# Altium schematic symbol library ISSI SRAM ASynchronous SRAM High Speed Low Power.SchLib: 413 symbols (part 4 of 21)
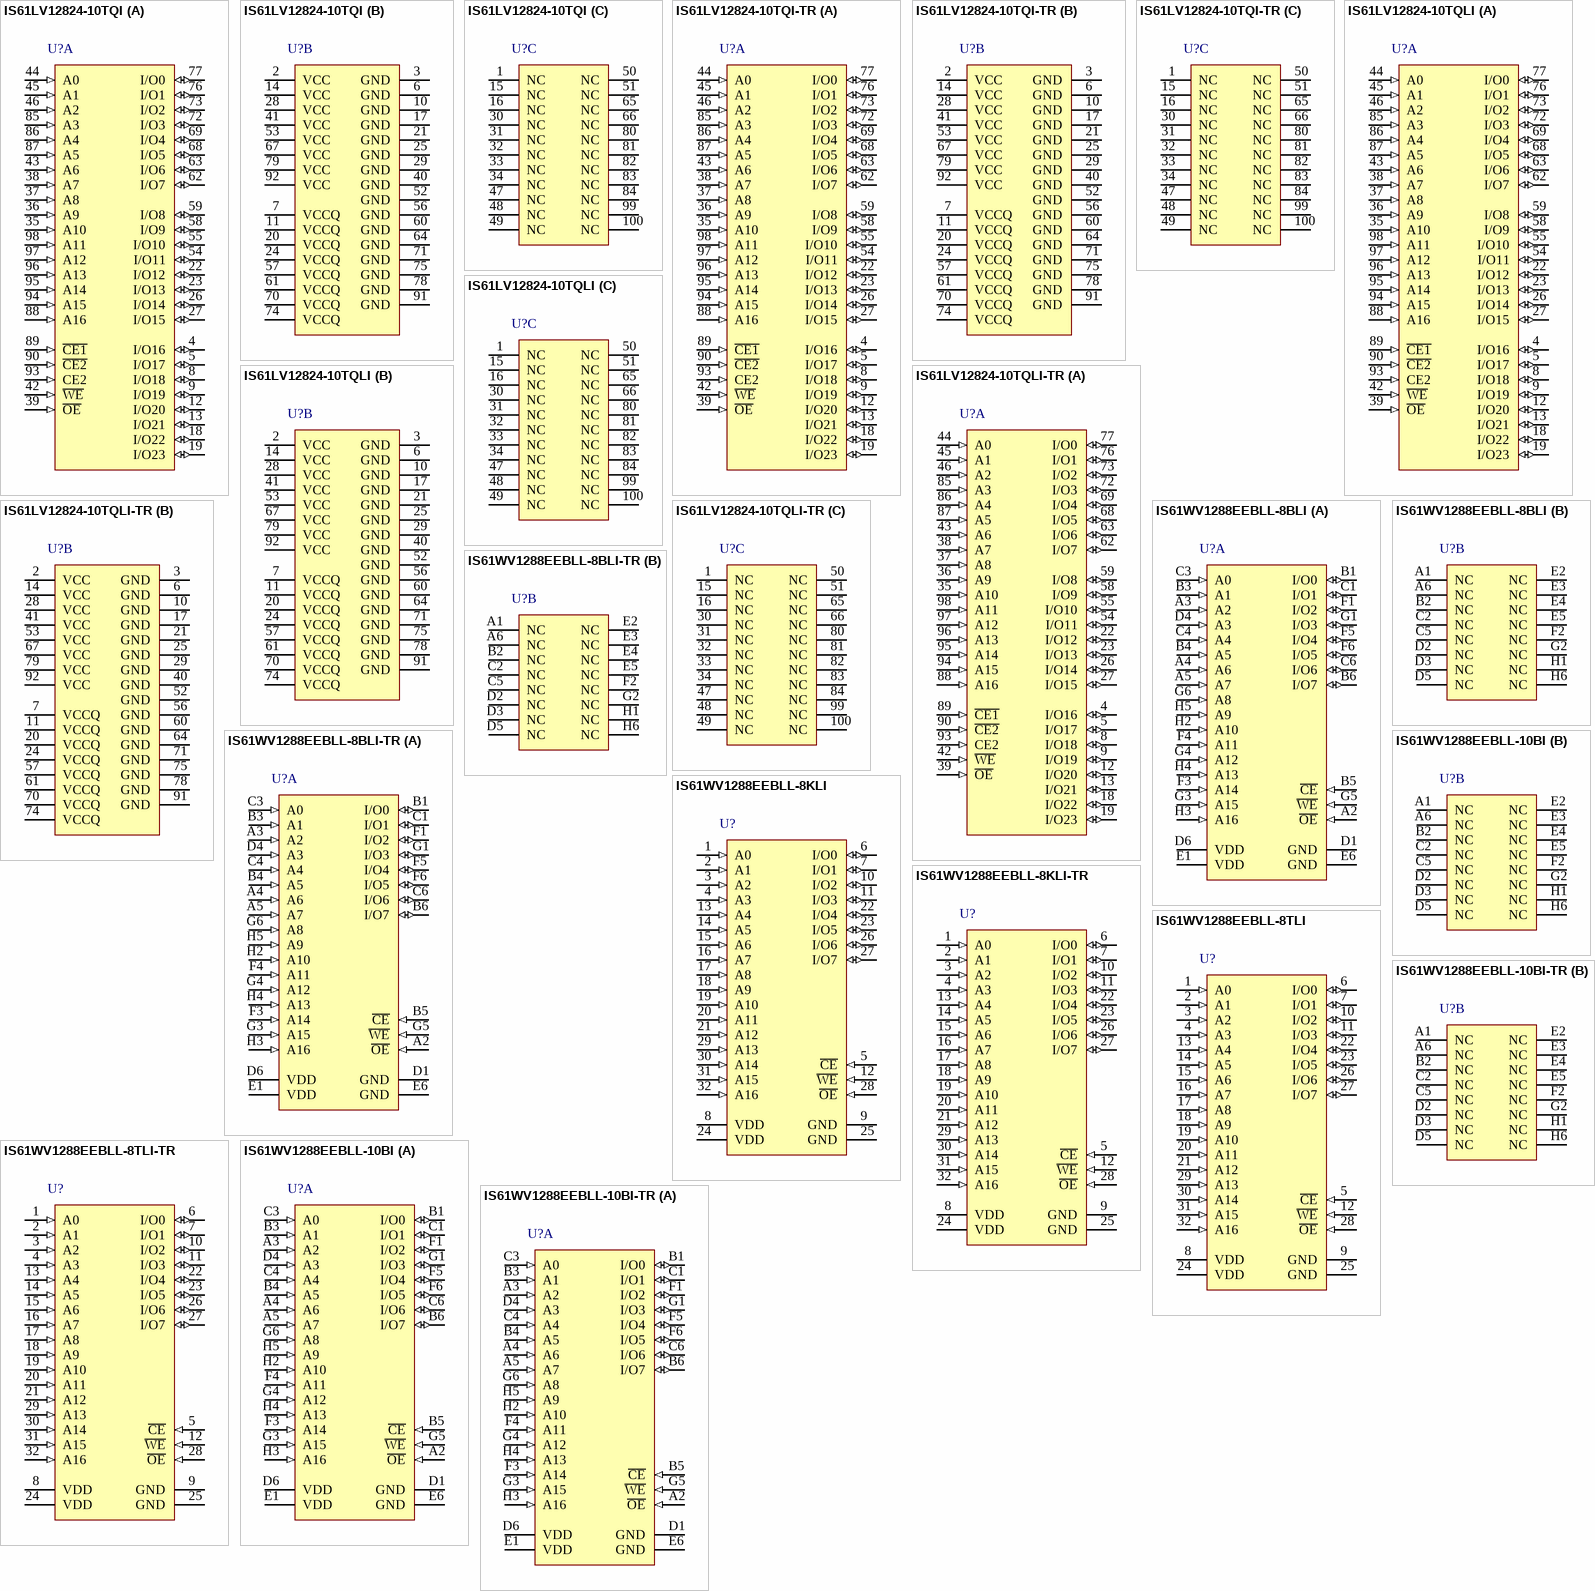
[diagram p31: symbols IS61LV12824-10TQI to IS61WV1288EEBLL-10BI-TR]

## IS61WV1288EEBLL-8BLI-TR
designator U?
1 M High Speed Asynchronous CMOS SRAM with ECC, 128 K x 8, -40 to 85 degC, 48-Pin BGA (TF-BGA-48), Pb-Free; Manufacturer: Integrated Silicon Solution Inc (ISSI); PartNumber: IS61WV1288EEBLL-8BLI-TR; Density: 1M; Organization: 128K x 8; Packing: Tape & Reel; Speed (ns): 8; DatasheetVersion: Rev. A; PackageVersion: Rev. C, 08/2008; PackageReference: TF-BGA-48; PackageDescription: 48-Pin 6 x 8 mm TF-BGA, Pitch 0.75 mm; RoHS: Pb-Free; Mounting Technology: Surface Mount; Code_JEDEC: MO-207; ComponentLink1Description: Manufacturer URL; ComponentLink1URL: http://www.issi.com/US/index.shtml; ComponentLink2Description: Datasheet; ComponentLink2URL: http://www.issi.com/WW/pdf/61-64WV1288EEBLL.pdf; ComponentLink3Description: Package Specification; ComponentLink3URL: http://www.issi.com/WW/pdf/61-64WV25616.pdf
footprint ISSI-TF-BGA-48-6000X8000DE (BGA, 48-Balls, Body 8x6mm, Pitch 0.75mm)
part A pins: A2 ~{OE} (in) "Output Enable Input", A3 A2 (in) "Address Input", A4 A6 (in) "Address Input", A5 A7 (in) "Address Input", B1 I/O0 (io) "Bidirectional Port", B3 A1 (in) "Address Input", B4 A5 (in) "Address Input", B5 ~{CE} (in) "Chip Enable Input", B6 I/O7 (io) "Bidirectional Port", C1 I/O1 (io) "Bidirectional Port", C3 A0 (in) "Address Input", C4 A4 (in) "Address Input", C6 I/O6 (io) "Bidirectional Port", D1 GND (power) "Ground", D4 A3 (in) "Address Input", D6 VDD (power) "Power", E1 VDD (power) "Power", E6 GND (power) "Ground", F1 I/O2 (io) "Bidirectional Port", F3 A14 (in) "Address Input", F4 A11 (in) "Address Input", F5 I/O4 (io) "Bidirectional Port", F6 I/O5 (io) "Bidirectional Port", G1 I/O3 (io) "Bidirectional Port", G3 A15 (in) "Address Input", G4 A12 (in) "Address Input", G5 ~{WE} (in) "Write Enable Input", G6 A8 (in) "Address Input", H2 A10 (in) "Address Input", H3 A16 (in) "Address Input", H4 A13 (in) "Address Input", H5 A9 (in) "Address Input"
part B pins: A1 NC "No Connection", A6 NC "No Connection", B2 NC "No Connection", C2 NC "No Connection", C5 NC "No Connection", D2 NC "No Connection", D3 NC "No Connection", D5 NC "No Connection", E2 NC "No Connection", E3 NC "No Connection", E4 NC "No Connection", E5 NC "No Connection", F2 NC "No Connection", G2 NC "No Connection", H1 NC "No Connection", H6 NC "No Connection"

## IS61WV1288EEBLL-8KLI
designator U?
1 M High Speed Asynchronous CMOS SRAM with ECC, 128 K x 8, -40 to 85 degC, 32-Pin SOJ (SOJ-32_B), Pb-Free; Manufacturer: Integrated Silicon Solution Inc (ISSI); PartNumber: IS61WV1288EEBLL-8KLI; Density: 1M; Organization: 128K x 8; Packing: Tray / Tube; Speed (ns): 8; DatasheetVersion: Rev. A; PackageVersion: Rev. E, 12/2007; PackageReference: SOJ-32; PackageDescription: 32-Pin 400 mil SOJ, Body 20.95 x 10.16 mm, Pitch 1.27 mm; RoHS: Pb-Free; Mounting Technology: Surface Mount; Code_JEDEC: MS-027; ComponentLink1Description: Manufacturer URL; ComponentLink1URL: http://www.issi.com/US/index.shtml; ComponentLink2Description: Datasheet; ComponentLink2URL: http://www.issi.com/WW/pdf/61-64WV1288EEBLL.pdf; ComponentLink3Description: Package Specification; ComponentLink3URL: http://www.issi.com/WW/pdf/61-64C1024AL.pdf
footprint ISSI-SOJ-32_B_N (SOJ, 32-Leads, Body 21.08x10.29mm, Pitch 1.27mm, IPC Medium Density)
pins: 1 A0 (in) "Address Input", 2 A1 (in) "Address Input", 3 A2 (in) "Address Input", 4 A3 (in) "Address Input", 5 ~{CE} (in) "Chip Enable Input", 6 I/O0 (io) "Bidirectional Port", 7 I/O1 (io) "Bidirectional Port", 8 VDD (power) "Power", 9 GND (power) "Ground", 10 I/O2 (io) "Bidirectional Port", 11 I/O3 (io) "Bidirectional Port", 12 ~{WE} (in) "Write Enable Input", 13 A4 (in) "Address Input", 14 A5 (in) "Address Input", 15 A6 (in) "Address Input", 16 A7 (in) "Address Input", 17 A8 (in) "Address Input", 18 A9 (in) "Address Input", 19 A10 (in) "Address Input", 20 A11 (in) "Address Input", 21 A12 (in) "Address Input", 22 I/O4 (io) "Bidirectional Port", 23 I/O5 (io) "Bidirectional Port", 24 VDD (power) "Power", 25 GND (power) "Ground", 26 I/O6 (io) "Bidirectional Port", 27 I/O7 (io) "Bidirectional Port", 28 ~{OE} (in) "Output Enable Input", 29 A13 (in) "Address Input", 30 A14 (in) "Address Input", 31 A15 (in) "Address Input", 32 A16 (in) "Address Input"

## IS61WV1288EEBLL-8KLI-TR
designator U?
1 M High Speed Asynchronous CMOS SRAM with ECC, 128 K x 8, -40 to 85 degC, 32-Pin SOJ (SOJ-32_B), Pb-Free; Manufacturer: Integrated Silicon Solution Inc (ISSI); PartNumber: IS61WV1288EEBLL-8KLI-TR; Density: 1M; Organization: 128K x 8; Packing: Tape & Reel; Speed (ns): 8; DatasheetVersion: Rev. A; PackageVersion: Rev. E, 12/2007; PackageReference: SOJ-32; PackageDescription: 32-Pin 400 mil SOJ, Body 20.95 x 10.16 mm, Pitch 1.27 mm; RoHS: Pb-Free; Mounting Technology: Surface Mount; Code_JEDEC: MS-027; ComponentLink1Description: Manufacturer URL; ComponentLink1URL: http://www.issi.com/US/index.shtml; ComponentLink2Description: Datasheet; ComponentLink2URL: http://www.issi.com/WW/pdf/61-64WV1288EEBLL.pdf; ComponentLink3Description: Package Specification; ComponentLink3URL: http://www.issi.com/WW/pdf/61-64C1024AL.pdf
footprint ISSI-SOJ-32_B_N (SOJ, 32-Leads, Body 21.08x10.29mm, Pitch 1.27mm, IPC Medium Density)
pins: 1 A0 (in) "Address Input", 2 A1 (in) "Address Input", 3 A2 (in) "Address Input", 4 A3 (in) "Address Input", 5 ~{CE} (in) "Chip Enable Input", 6 I/O0 (io) "Bidirectional Port", 7 I/O1 (io) "Bidirectional Port", 8 VDD (power) "Power", 9 GND (power) "Ground", 10 I/O2 (io) "Bidirectional Port", 11 I/O3 (io) "Bidirectional Port", 12 ~{WE} (in) "Write Enable Input", 13 A4 (in) "Address Input", 14 A5 (in) "Address Input", 15 A6 (in) "Address Input", 16 A7 (in) "Address Input", 17 A8 (in) "Address Input", 18 A9 (in) "Address Input", 19 A10 (in) "Address Input", 20 A11 (in) "Address Input", 21 A12 (in) "Address Input", 22 I/O4 (io) "Bidirectional Port", 23 I/O5 (io) "Bidirectional Port", 24 VDD (power) "Power", 25 GND (power) "Ground", 26 I/O6 (io) "Bidirectional Port", 27 I/O7 (io) "Bidirectional Port", 28 ~{OE} (in) "Output Enable Input", 29 A13 (in) "Address Input", 30 A14 (in) "Address Input", 31 A15 (in) "Address Input", 32 A16 (in) "Address Input"

## IS61WV1288EEBLL-8TLI
designator U?
1 M High Speed Asynchronous CMOS SRAM with ECC, 128 K x 8, -40 to 85 degC, 32-Pin SOP (TSOP-2-32), Pb-Free; Manufacturer: Integrated Silicon Solution Inc (ISSI); PartNumber: IS61WV1288EEBLL-8TLI; Density: 1M; Organization: 128K x 8; Packing: Tray / Tube; Speed (ns): 8; DatasheetVersion: Rev. A; PackageVersion: Rev. E, 06/2009; PackageReference: TSOP-2-32; PackageDescription: 32-Pin 400 mil TSOP-2, Body 20.95 x 10.16 mm, Pitch 1.27 mm; RoHS: Pb-Free; Mounting Technology: Surface Mount; ComponentLink1Description: Manufacturer URL; ComponentLink1URL: http://www.issi.com/US/index.shtml; ComponentLink2Description: Datasheet; ComponentLink2URL: http://www.issi.com/WW/pdf/61-64WV1288EEBLL.pdf; ComponentLink3Description: Package Specification; ComponentLink3URL: http://www.issi.com/WW/pdf/61-64WV1288EEBLL.pdf
footprint ISSI-TSOP-2-32_N (SOP, 32-Leads, Body 21.1x10.3mm, Pitch 1.27mm, IPC Medium Density)
pins: 1 A0 (in) "Address Input", 2 A1 (in) "Address Input", 3 A2 (in) "Address Input", 4 A3 (in) "Address Input", 5 ~{CE} (in) "Chip Enable Input", 6 I/O0 (io) "Bidirectional Port", 7 I/O1 (io) "Bidirectional Port", 8 VDD (power) "Power", 9 GND (power) "Ground", 10 I/O2 (io) "Bidirectional Port", 11 I/O3 (io) "Bidirectional Port", 12 ~{WE} (in) "Write Enable Input", 13 A4 (in) "Address Input", 14 A5 (in) "Address Input", 15 A6 (in) "Address Input", 16 A7 (in) "Address Input", 17 A8 (in) "Address Input", 18 A9 (in) "Address Input", 19 A10 (in) "Address Input", 20 A11 (in) "Address Input", 21 A12 (in) "Address Input", 22 I/O4 (io) "Bidirectional Port", 23 I/O5 (io) "Bidirectional Port", 24 VDD (power) "Power", 25 GND (power) "Ground", 26 I/O6 (io) "Bidirectional Port", 27 I/O7 (io) "Bidirectional Port", 28 ~{OE} (in) "Output Enable Input", 29 A13 (in) "Address Input", 30 A14 (in) "Address Input", 31 A15 (in) "Address Input", 32 A16 (in) "Address Input"

## IS61WV1288EEBLL-8TLI-TR
designator U?
1 M High Speed Asynchronous CMOS SRAM with ECC, 128 K x 8, -40 to 85 degC, 32-Pin SOP (TSOP-2-32), Pb-Free; Manufacturer: Integrated Silicon Solution Inc (ISSI); PartNumber: IS61WV1288EEBLL-8TLI-TR; Density: 1M; Organization: 128K x 8; Packing: Tape & Reel; Speed (ns): 8; DatasheetVersion: Rev. A; PackageVersion: Rev. E, 06/2009; PackageReference: TSOP-2-32; PackageDescription: 32-Pin 400 mil TSOP-2, Body 20.95 x 10.16 mm, Pitch 1.27 mm; RoHS: Pb-Free; Mounting Technology: Surface Mount; ComponentLink1Description: Manufacturer URL; ComponentLink1URL: http://www.issi.com/US/index.shtml; ComponentLink2Description: Datasheet; ComponentLink2URL: http://www.issi.com/WW/pdf/61-64WV1288EEBLL.pdf; ComponentLink3Description: Package Specification; ComponentLink3URL: http://www.issi.com/WW/pdf/61-64WV1288EEBLL.pdf
footprint ISSI-TSOP-2-32_N (SOP, 32-Leads, Body 21.1x10.3mm, Pitch 1.27mm, IPC Medium Density)
pins: 1 A0 (in) "Address Input", 2 A1 (in) "Address Input", 3 A2 (in) "Address Input", 4 A3 (in) "Address Input", 5 ~{CE} (in) "Chip Enable Input", 6 I/O0 (io) "Bidirectional Port", 7 I/O1 (io) "Bidirectional Port", 8 VDD (power) "Power", 9 GND (power) "Ground", 10 I/O2 (io) "Bidirectional Port", 11 I/O3 (io) "Bidirectional Port", 12 ~{WE} (in) "Write Enable Input", 13 A4 (in) "Address Input", 14 A5 (in) "Address Input", 15 A6 (in) "Address Input", 16 A7 (in) "Address Input", 17 A8 (in) "Address Input", 18 A9 (in) "Address Input", 19 A10 (in) "Address Input", 20 A11 (in) "Address Input", 21 A12 (in) "Address Input", 22 I/O4 (io) "Bidirectional Port", 23 I/O5 (io) "Bidirectional Port", 24 VDD (power) "Power", 25 GND (power) "Ground", 26 I/O6 (io) "Bidirectional Port", 27 I/O7 (io) "Bidirectional Port", 28 ~{OE} (in) "Output Enable Input", 29 A13 (in) "Address Input", 30 A14 (in) "Address Input", 31 A15 (in) "Address Input", 32 A16 (in) "Address Input"

## IS61WV1288EEBLL-10BI
designator U?
1 M High Speed Asynchronous CMOS SRAM with ECC, 128 K x 8, -40 to 85 degC, 48-Pin BGA (TF-BGA-48); Manufacturer: Integrated Silicon Solution Inc (ISSI); PartNumber: IS61WV1288EEBLL-10BI; Density: 1M; Organization: 128K x 8; Packing: Tray / Tube; Speed (ns): 10; DatasheetVersion: Rev. A; PackageVersion: Rev. C, 08/2008; PackageReference: TF-BGA-48; PackageDescription: 48-Pin 6 x 8 mm TF-BGA, Pitch 0.75 mm; Mounting Technology: Surface Mount; Code_JEDEC: MO-207; ComponentLink1Description: Manufacturer URL; ComponentLink1URL: http://www.issi.com/US/index.shtml; ComponentLink2Description: Datasheet; ComponentLink2URL: http://www.issi.com/WW/pdf/61-64WV1288EEBLL.pdf; ComponentLink3Description: Package Specification; ComponentLink3URL: http://www.issi.com/WW/pdf/61-64WV25616.pdf
footprint ISSI-TF-BGA-48-6000X8000DE (BGA, 48-Balls, Body 8x6mm, Pitch 0.75mm)
part A pins: A2 ~{OE} (in) "Output Enable Input", A3 A2 (in) "Address Input", A4 A6 (in) "Address Input", A5 A7 (in) "Address Input", B1 I/O0 (io) "Bidirectional Port", B3 A1 (in) "Address Input", B4 A5 (in) "Address Input", B5 ~{CE} (in) "Chip Enable Input", B6 I/O7 (io) "Bidirectional Port", C1 I/O1 (io) "Bidirectional Port", C3 A0 (in) "Address Input", C4 A4 (in) "Address Input", C6 I/O6 (io) "Bidirectional Port", D1 GND (power) "Ground", D4 A3 (in) "Address Input", D6 VDD (power) "Power", E1 VDD (power) "Power", E6 GND (power) "Ground", F1 I/O2 (io) "Bidirectional Port", F3 A14 (in) "Address Input", F4 A11 (in) "Address Input", F5 I/O4 (io) "Bidirectional Port", F6 I/O5 (io) "Bidirectional Port", G1 I/O3 (io) "Bidirectional Port", G3 A15 (in) "Address Input", G4 A12 (in) "Address Input", G5 ~{WE} (in) "Write Enable Input", G6 A8 (in) "Address Input", H2 A10 (in) "Address Input", H3 A16 (in) "Address Input", H4 A13 (in) "Address Input", H5 A9 (in) "Address Input"
part B pins: A1 NC "No Connection", A6 NC "No Connection", B2 NC "No Connection", C2 NC "No Connection", C5 NC "No Connection", D2 NC "No Connection", D3 NC "No Connection", D5 NC "No Connection", E2 NC "No Connection", E3 NC "No Connection", E4 NC "No Connection", E5 NC "No Connection", F2 NC "No Connection", G2 NC "No Connection", H1 NC "No Connection", H6 NC "No Connection"

## IS61WV1288EEBLL-10BI-TR
designator U?
1 M High Speed Asynchronous CMOS SRAM with ECC, 128 K x 8, -40 to 85 degC, 48-Pin BGA (TF-BGA-48); Manufacturer: Integrated Silicon Solution Inc (ISSI); PartNumber: IS61WV1288EEBLL-10BI-TR; Density: 1M; Organization: 128K x 8; Packing: Tape & Reel; Speed (ns): 10; DatasheetVersion: Rev. A; PackageVersion: Rev. C, 08/2008; PackageReference: TF-BGA-48; PackageDescription: 48-Pin 6 x 8 mm TF-BGA, Pitch 0.75 mm; Mounting Technology: Surface Mount; Code_JEDEC: MO-207; ComponentLink1Description: Manufacturer URL; ComponentLink1URL: http://www.issi.com/US/index.shtml; ComponentLink2Description: Datasheet; ComponentLink2URL: http://www.issi.com/WW/pdf/61-64WV1288EEBLL.pdf; ComponentLink3Description: Package Specification; ComponentLink3URL: http://www.issi.com/WW/pdf/61-64WV25616.pdf
footprint ISSI-TF-BGA-48-6000X8000DE (BGA, 48-Balls, Body 8x6mm, Pitch 0.75mm)
part A pins: A2 ~{OE} (in) "Output Enable Input", A3 A2 (in) "Address Input", A4 A6 (in) "Address Input", A5 A7 (in) "Address Input", B1 I/O0 (io) "Bidirectional Port", B3 A1 (in) "Address Input", B4 A5 (in) "Address Input", B5 ~{CE} (in) "Chip Enable Input", B6 I/O7 (io) "Bidirectional Port", C1 I/O1 (io) "Bidirectional Port", C3 A0 (in) "Address Input", C4 A4 (in) "Address Input", C6 I/O6 (io) "Bidirectional Port", D1 GND (power) "Ground", D4 A3 (in) "Address Input", D6 VDD (power) "Power", E1 VDD (power) "Power", E6 GND (power) "Ground", F1 I/O2 (io) "Bidirectional Port", F3 A14 (in) "Address Input", F4 A11 (in) "Address Input", F5 I/O4 (io) "Bidirectional Port", F6 I/O5 (io) "Bidirectional Port", G1 I/O3 (io) "Bidirectional Port", G3 A15 (in) "Address Input", G4 A12 (in) "Address Input", G5 ~{WE} (in) "Write Enable Input", G6 A8 (in) "Address Input", H2 A10 (in) "Address Input", H3 A16 (in) "Address Input", H4 A13 (in) "Address Input", H5 A9 (in) "Address Input"
part B pins: A1 NC "No Connection", A6 NC "No Connection", B2 NC "No Connection", C2 NC "No Connection", C5 NC "No Connection", D2 NC "No Connection", D3 NC "No Connection", D5 NC "No Connection", E2 NC "No Connection", E3 NC "No Connection", E4 NC "No Connection", E5 NC "No Connection", F2 NC "No Connection", G2 NC "No Connection", H1 NC "No Connection", H6 NC "No Connection"

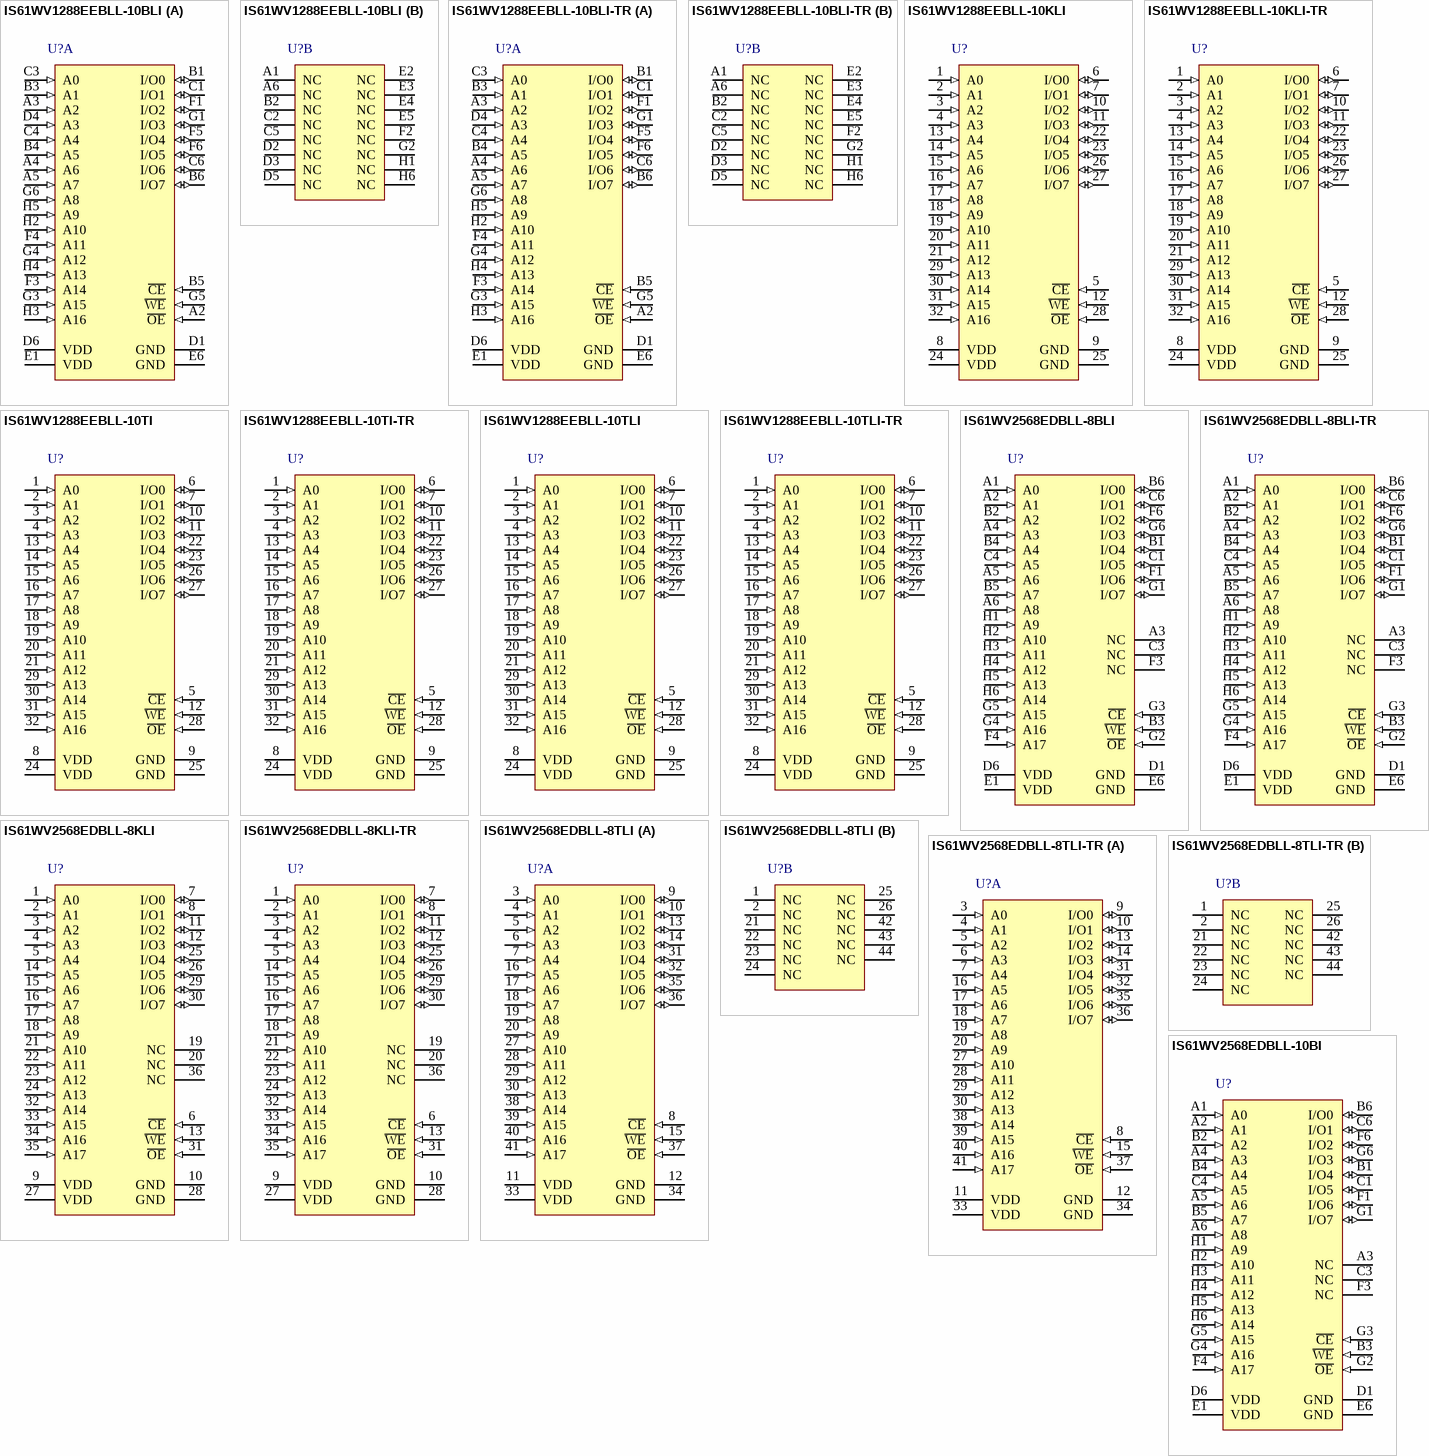
[diagram p5: symbols IS61WV1288EEBLL-10BLI to IS61WV2568EDBLL-10BI]

## IS61WV1288EEBLL-10BLI
designator U?
1 M High Speed Asynchronous CMOS SRAM with ECC, 128 K x 8, -40 to 85 degC, 48-Pin BGA (TF-BGA-48), Pb-Free; Manufacturer: Integrated Silicon Solution Inc (ISSI); PartNumber: IS61WV1288EEBLL-10BLI; Density: 1M; Organization: 128K x 8; Packing: Tray / Tube; Speed (ns): 10; DatasheetVersion: Rev. A; PackageVersion: Rev. C, 08/2008; PackageReference: TF-BGA-48; PackageDescription: 48-Pin 6 x 8 mm TF-BGA, Pitch 0.75 mm; RoHS: Pb-Free; Mounting Technology: Surface Mount; Code_JEDEC: MO-207; ComponentLink1Description: Manufacturer URL; ComponentLink1URL: http://www.issi.com/US/index.shtml; ComponentLink2Description: Datasheet; ComponentLink2URL: http://www.issi.com/WW/pdf/61-64WV1288EEBLL.pdf; ComponentLink3Description: Package Specification; ComponentLink3URL: http://www.issi.com/WW/pdf/61-64WV25616.pdf
footprint ISSI-TF-BGA-48-6000X8000DE (BGA, 48-Balls, Body 8x6mm, Pitch 0.75mm)
part A pins: A2 ~{OE} (in) "Output Enable Input", A3 A2 (in) "Address Input", A4 A6 (in) "Address Input", A5 A7 (in) "Address Input", B1 I/O0 (io) "Bidirectional Port", B3 A1 (in) "Address Input", B4 A5 (in) "Address Input", B5 ~{CE} (in) "Chip Enable Input", B6 I/O7 (io) "Bidirectional Port", C1 I/O1 (io) "Bidirectional Port", C3 A0 (in) "Address Input", C4 A4 (in) "Address Input", C6 I/O6 (io) "Bidirectional Port", D1 GND (power) "Ground", D4 A3 (in) "Address Input", D6 VDD (power) "Power", E1 VDD (power) "Power", E6 GND (power) "Ground", F1 I/O2 (io) "Bidirectional Port", F3 A14 (in) "Address Input", F4 A11 (in) "Address Input", F5 I/O4 (io) "Bidirectional Port", F6 I/O5 (io) "Bidirectional Port", G1 I/O3 (io) "Bidirectional Port", G3 A15 (in) "Address Input", G4 A12 (in) "Address Input", G5 ~{WE} (in) "Write Enable Input", G6 A8 (in) "Address Input", H2 A10 (in) "Address Input", H3 A16 (in) "Address Input", H4 A13 (in) "Address Input", H5 A9 (in) "Address Input"
part B pins: A1 NC "No Connection", A6 NC "No Connection", B2 NC "No Connection", C2 NC "No Connection", C5 NC "No Connection", D2 NC "No Connection", D3 NC "No Connection", D5 NC "No Connection", E2 NC "No Connection", E3 NC "No Connection", E4 NC "No Connection", E5 NC "No Connection", F2 NC "No Connection", G2 NC "No Connection", H1 NC "No Connection", H6 NC "No Connection"

## IS61WV1288EEBLL-10BLI-TR
designator U?
1 M High Speed Asynchronous CMOS SRAM with ECC, 128 K x 8, -40 to 85 degC, 48-Pin BGA (TF-BGA-48), Pb-Free; Manufacturer: Integrated Silicon Solution Inc (ISSI); PartNumber: IS61WV1288EEBLL-10BLI-TR; Density: 1M; Organization: 128K x 8; Packing: Tape & Reel; Speed (ns): 10; DatasheetVersion: Rev. A; PackageVersion: Rev. C, 08/2008; PackageReference: TF-BGA-48; PackageDescription: 48-Pin 6 x 8 mm TF-BGA, Pitch 0.75 mm; RoHS: Pb-Free; Mounting Technology: Surface Mount; Code_JEDEC: MO-207; ComponentLink1Description: Manufacturer URL; ComponentLink1URL: http://www.issi.com/US/index.shtml; ComponentLink2Description: Datasheet; ComponentLink2URL: http://www.issi.com/WW/pdf/61-64WV1288EEBLL.pdf; ComponentLink3Description: Package Specification; ComponentLink3URL: http://www.issi.com/WW/pdf/61-64WV25616.pdf
footprint ISSI-TF-BGA-48-6000X8000DE (BGA, 48-Balls, Body 8x6mm, Pitch 0.75mm)
part A pins: A2 ~{OE} (in) "Output Enable Input", A3 A2 (in) "Address Input", A4 A6 (in) "Address Input", A5 A7 (in) "Address Input", B1 I/O0 (io) "Bidirectional Port", B3 A1 (in) "Address Input", B4 A5 (in) "Address Input", B5 ~{CE} (in) "Chip Enable Input", B6 I/O7 (io) "Bidirectional Port", C1 I/O1 (io) "Bidirectional Port", C3 A0 (in) "Address Input", C4 A4 (in) "Address Input", C6 I/O6 (io) "Bidirectional Port", D1 GND (power) "Ground", D4 A3 (in) "Address Input", D6 VDD (power) "Power", E1 VDD (power) "Power", E6 GND (power) "Ground", F1 I/O2 (io) "Bidirectional Port", F3 A14 (in) "Address Input", F4 A11 (in) "Address Input", F5 I/O4 (io) "Bidirectional Port", F6 I/O5 (io) "Bidirectional Port", G1 I/O3 (io) "Bidirectional Port", G3 A15 (in) "Address Input", G4 A12 (in) "Address Input", G5 ~{WE} (in) "Write Enable Input", G6 A8 (in) "Address Input", H2 A10 (in) "Address Input", H3 A16 (in) "Address Input", H4 A13 (in) "Address Input", H5 A9 (in) "Address Input"
part B pins: A1 NC "No Connection", A6 NC "No Connection", B2 NC "No Connection", C2 NC "No Connection", C5 NC "No Connection", D2 NC "No Connection", D3 NC "No Connection", D5 NC "No Connection", E2 NC "No Connection", E3 NC "No Connection", E4 NC "No Connection", E5 NC "No Connection", F2 NC "No Connection", G2 NC "No Connection", H1 NC "No Connection", H6 NC "No Connection"

## IS61WV1288EEBLL-10KLI
designator U?
1 M High Speed Asynchronous CMOS SRAM with ECC, 128 K x 8, -40 to 85 degC, 32-Pin SOJ (SOJ-32_B), Pb-Free; Manufacturer: Integrated Silicon Solution Inc (ISSI); PartNumber: IS61WV1288EEBLL-10KLI; Density: 1M; Organization: 128K x 8; Packing: Tray / Tube; Speed (ns): 10; DatasheetVersion: Rev. A; PackageVersion: Rev. E, 12/2007; PackageReference: SOJ-32; PackageDescription: 32-Pin 400 mil SOJ, Body 20.95 x 10.16 mm, Pitch 1.27 mm; RoHS: Pb-Free; Mounting Technology: Surface Mount; Code_JEDEC: MS-027; ComponentLink1Description: Manufacturer URL; ComponentLink1URL: http://www.issi.com/US/index.shtml; ComponentLink2Description: Datasheet; ComponentLink2URL: http://www.issi.com/WW/pdf/61-64WV1288EEBLL.pdf; ComponentLink3Description: Package Specification; ComponentLink3URL: http://www.issi.com/WW/pdf/61-64C1024AL.pdf
footprint ISSI-SOJ-32_B_N (SOJ, 32-Leads, Body 21.08x10.29mm, Pitch 1.27mm, IPC Medium Density)
pins: 1 A0 (in) "Address Input", 2 A1 (in) "Address Input", 3 A2 (in) "Address Input", 4 A3 (in) "Address Input", 5 ~{CE} (in) "Chip Enable Input", 6 I/O0 (io) "Bidirectional Port", 7 I/O1 (io) "Bidirectional Port", 8 VDD (power) "Power", 9 GND (power) "Ground", 10 I/O2 (io) "Bidirectional Port", 11 I/O3 (io) "Bidirectional Port", 12 ~{WE} (in) "Write Enable Input", 13 A4 (in) "Address Input", 14 A5 (in) "Address Input", 15 A6 (in) "Address Input", 16 A7 (in) "Address Input", 17 A8 (in) "Address Input", 18 A9 (in) "Address Input", 19 A10 (in) "Address Input", 20 A11 (in) "Address Input", 21 A12 (in) "Address Input", 22 I/O4 (io) "Bidirectional Port", 23 I/O5 (io) "Bidirectional Port", 24 VDD (power) "Power", 25 GND (power) "Ground", 26 I/O6 (io) "Bidirectional Port", 27 I/O7 (io) "Bidirectional Port", 28 ~{OE} (in) "Output Enable Input", 29 A13 (in) "Address Input", 30 A14 (in) "Address Input", 31 A15 (in) "Address Input", 32 A16 (in) "Address Input"

## IS61WV1288EEBLL-10KLI-TR
designator U?
1 M High Speed Asynchronous CMOS SRAM with ECC, 128 K x 8, -40 to 85 degC, 32-Pin SOJ (SOJ-32_B), Pb-Free; Manufacturer: Integrated Silicon Solution Inc (ISSI); PartNumber: IS61WV1288EEBLL-10KLI-TR; Density: 1M; Organization: 128K x 8; Packing: Tape & Reel; Speed (ns): 10; DatasheetVersion: Rev. A; PackageVersion: Rev. E, 12/2007; PackageReference: SOJ-32; PackageDescription: 32-Pin 400 mil SOJ, Body 20.95 x 10.16 mm, Pitch 1.27 mm; RoHS: Pb-Free; Mounting Technology: Surface Mount; Code_JEDEC: MS-027; ComponentLink1Description: Manufacturer URL; ComponentLink1URL: http://www.issi.com/US/index.shtml; ComponentLink2Description: Datasheet; ComponentLink2URL: http://www.issi.com/WW/pdf/61-64WV1288EEBLL.pdf; ComponentLink3Description: Package Specification; ComponentLink3URL: http://www.issi.com/WW/pdf/61-64C1024AL.pdf
footprint ISSI-SOJ-32_B_N (SOJ, 32-Leads, Body 21.08x10.29mm, Pitch 1.27mm, IPC Medium Density)
pins: 1 A0 (in) "Address Input", 2 A1 (in) "Address Input", 3 A2 (in) "Address Input", 4 A3 (in) "Address Input", 5 ~{CE} (in) "Chip Enable Input", 6 I/O0 (io) "Bidirectional Port", 7 I/O1 (io) "Bidirectional Port", 8 VDD (power) "Power", 9 GND (power) "Ground", 10 I/O2 (io) "Bidirectional Port", 11 I/O3 (io) "Bidirectional Port", 12 ~{WE} (in) "Write Enable Input", 13 A4 (in) "Address Input", 14 A5 (in) "Address Input", 15 A6 (in) "Address Input", 16 A7 (in) "Address Input", 17 A8 (in) "Address Input", 18 A9 (in) "Address Input", 19 A10 (in) "Address Input", 20 A11 (in) "Address Input", 21 A12 (in) "Address Input", 22 I/O4 (io) "Bidirectional Port", 23 I/O5 (io) "Bidirectional Port", 24 VDD (power) "Power", 25 GND (power) "Ground", 26 I/O6 (io) "Bidirectional Port", 27 I/O7 (io) "Bidirectional Port", 28 ~{OE} (in) "Output Enable Input", 29 A13 (in) "Address Input", 30 A14 (in) "Address Input", 31 A15 (in) "Address Input", 32 A16 (in) "Address Input"

## IS61WV1288EEBLL-10TI
designator U?
1 M High Speed Asynchronous CMOS SRAM with ECC, 128 K x 8, -40 to 85 degC, 32-Pin SOP (TSOP-2-32); Manufacturer: Integrated Silicon Solution Inc (ISSI); PartNumber: IS61WV1288EEBLL-10TI; Density: 1M; Organization: 128K x 8; Packing: Tray / Tube; Speed (ns): 10; DatasheetVersion: Rev. A; PackageVersion: Rev. E, 06/2009; PackageReference: TSOP-2-32; PackageDescription: 32-Pin 400 mil TSOP-2, Body 20.95 x 10.16 mm, Pitch 1.27 mm; Mounting Technology: Surface Mount; ComponentLink1Description: Manufacturer URL; ComponentLink1URL: http://www.issi.com/US/index.shtml; ComponentLink2Description: Datasheet; ComponentLink2URL: http://www.issi.com/WW/pdf/61-64WV1288EEBLL.pdf; ComponentLink3Description: Package Specification; ComponentLink3URL: http://www.issi.com/WW/pdf/61-64WV1288EEBLL.pdf
footprint ISSI-TSOP-2-32_N (SOP, 32-Leads, Body 21.1x10.3mm, Pitch 1.27mm, IPC Medium Density)
pins: 1 A0 (in) "Address Input", 2 A1 (in) "Address Input", 3 A2 (in) "Address Input", 4 A3 (in) "Address Input", 5 ~{CE} (in) "Chip Enable Input", 6 I/O0 (io) "Bidirectional Port", 7 I/O1 (io) "Bidirectional Port", 8 VDD (power) "Power", 9 GND (power) "Ground", 10 I/O2 (io) "Bidirectional Port", 11 I/O3 (io) "Bidirectional Port", 12 ~{WE} (in) "Write Enable Input", 13 A4 (in) "Address Input", 14 A5 (in) "Address Input", 15 A6 (in) "Address Input", 16 A7 (in) "Address Input", 17 A8 (in) "Address Input", 18 A9 (in) "Address Input", 19 A10 (in) "Address Input", 20 A11 (in) "Address Input", 21 A12 (in) "Address Input", 22 I/O4 (io) "Bidirectional Port", 23 I/O5 (io) "Bidirectional Port", 24 VDD (power) "Power", 25 GND (power) "Ground", 26 I/O6 (io) "Bidirectional Port", 27 I/O7 (io) "Bidirectional Port", 28 ~{OE} (in) "Output Enable Input", 29 A13 (in) "Address Input", 30 A14 (in) "Address Input", 31 A15 (in) "Address Input", 32 A16 (in) "Address Input"

## IS61WV1288EEBLL-10TI-TR
designator U?
1 M High Speed Asynchronous CMOS SRAM with ECC, 128 K x 8, -40 to 85 degC, 32-Pin SOP (TSOP-2-32); Manufacturer: Integrated Silicon Solution Inc (ISSI); PartNumber: IS61WV1288EEBLL-10TI-TR; Density: 1M; Organization: 128K x 8; Packing: Tape & Reel; Speed (ns): 10; DatasheetVersion: Rev. A; PackageVersion: Rev. E, 06/2009; PackageReference: TSOP-2-32; PackageDescription: 32-Pin 400 mil TSOP-2, Body 20.95 x 10.16 mm, Pitch 1.27 mm; Mounting Technology: Surface Mount; ComponentLink1Description: Manufacturer URL; ComponentLink1URL: http://www.issi.com/US/index.shtml; ComponentLink2Description: Datasheet; ComponentLink2URL: http://www.issi.com/WW/pdf/61-64WV1288EEBLL.pdf; ComponentLink3Description: Package Specification; ComponentLink3URL: http://www.issi.com/WW/pdf/61-64WV1288EEBLL.pdf
footprint ISSI-TSOP-2-32_N (SOP, 32-Leads, Body 21.1x10.3mm, Pitch 1.27mm, IPC Medium Density)
pins: 1 A0 (in) "Address Input", 2 A1 (in) "Address Input", 3 A2 (in) "Address Input", 4 A3 (in) "Address Input", 5 ~{CE} (in) "Chip Enable Input", 6 I/O0 (io) "Bidirectional Port", 7 I/O1 (io) "Bidirectional Port", 8 VDD (power) "Power", 9 GND (power) "Ground", 10 I/O2 (io) "Bidirectional Port", 11 I/O3 (io) "Bidirectional Port", 12 ~{WE} (in) "Write Enable Input", 13 A4 (in) "Address Input", 14 A5 (in) "Address Input", 15 A6 (in) "Address Input", 16 A7 (in) "Address Input", 17 A8 (in) "Address Input", 18 A9 (in) "Address Input", 19 A10 (in) "Address Input", 20 A11 (in) "Address Input", 21 A12 (in) "Address Input", 22 I/O4 (io) "Bidirectional Port", 23 I/O5 (io) "Bidirectional Port", 24 VDD (power) "Power", 25 GND (power) "Ground", 26 I/O6 (io) "Bidirectional Port", 27 I/O7 (io) "Bidirectional Port", 28 ~{OE} (in) "Output Enable Input", 29 A13 (in) "Address Input", 30 A14 (in) "Address Input", 31 A15 (in) "Address Input", 32 A16 (in) "Address Input"

## IS61WV1288EEBLL-10TLI
designator U?
1 M High Speed Asynchronous CMOS SRAM with ECC, 128 K x 8, -40 to 85 degC, 32-Pin SOP (TSOP-2-32), Pb-Free; Manufacturer: Integrated Silicon Solution Inc (ISSI); PartNumber: IS61WV1288EEBLL-10TLI; Density: 1M; Organization: 128K x 8; Packing: Tray / Tube; Speed (ns): 10; DatasheetVersion: Rev. A; PackageVersion: Rev. E, 06/2009; PackageReference: TSOP-2-32; PackageDescription: 32-Pin 400 mil TSOP-2, Body 20.95 x 10.16 mm, Pitch 1.27 mm; Supplier 1: Mouser; Supplier Part Number 1: 870-61WV1288ELL10TLI; RoHS: Pb-Free; Mounting Technology: Surface Mount; ComponentLink1Description: Manufacturer URL; ComponentLink1URL: http://www.issi.com/US/index.shtml; ComponentLink2Description: Datasheet; ComponentLink2URL: http://www.issi.com/WW/pdf/61-64WV1288EEBLL.pdf; ComponentLink3Description: Package Specification; ComponentLink3URL: http://www.issi.com/WW/pdf/61-64WV1288EEBLL.pdf
footprint ISSI-TSOP-2-32_N (SOP, 32-Leads, Body 21.1x10.3mm, Pitch 1.27mm, IPC Medium Density)
pins: 1 A0 (in) "Address Input", 2 A1 (in) "Address Input", 3 A2 (in) "Address Input", 4 A3 (in) "Address Input", 5 ~{CE} (in) "Chip Enable Input", 6 I/O0 (io) "Bidirectional Port", 7 I/O1 (io) "Bidirectional Port", 8 VDD (power) "Power", 9 GND (power) "Ground", 10 I/O2 (io) "Bidirectional Port", 11 I/O3 (io) "Bidirectional Port", 12 ~{WE} (in) "Write Enable Input", 13 A4 (in) "Address Input", 14 A5 (in) "Address Input", 15 A6 (in) "Address Input", 16 A7 (in) "Address Input", 17 A8 (in) "Address Input", 18 A9 (in) "Address Input", 19 A10 (in) "Address Input", 20 A11 (in) "Address Input", 21 A12 (in) "Address Input", 22 I/O4 (io) "Bidirectional Port", 23 I/O5 (io) "Bidirectional Port", 24 VDD (power) "Power", 25 GND (power) "Ground", 26 I/O6 (io) "Bidirectional Port", 27 I/O7 (io) "Bidirectional Port", 28 ~{OE} (in) "Output Enable Input", 29 A13 (in) "Address Input", 30 A14 (in) "Address Input", 31 A15 (in) "Address Input", 32 A16 (in) "Address Input"

## IS61WV1288EEBLL-10TLI-TR
designator U?
1 M High Speed Asynchronous CMOS SRAM with ECC, 128 K x 8, -40 to 85 degC, 32-Pin SOP (TSOP-2-32), Pb-Free; Manufacturer: Integrated Silicon Solution Inc (ISSI); PartNumber: IS61WV1288EEBLL-10TLI-TR; Density: 1M; Organization: 128K x 8; Packing: Tape & Reel; Speed (ns): 10; DatasheetVersion: Rev. A; PackageVersion: Rev. E, 06/2009; PackageReference: TSOP-2-32; PackageDescription: 32-Pin 400 mil TSOP-2, Body 20.95 x 10.16 mm, Pitch 1.27 mm; Supplier 1: Mouser; Supplier Part Number 1: 870-61WV1288EE10TLIR; RoHS: Pb-Free; Mounting Technology: Surface Mount; ComponentLink1Description: Manufacturer URL; ComponentLink1URL: http://www.issi.com/US/index.shtml; ComponentLink2Description: Datasheet; ComponentLink2URL: http://www.issi.com/WW/pdf/61-64WV1288EEBLL.pdf; ComponentLink3Description: Package Specification; ComponentLink3URL: http://www.issi.com/WW/pdf/61-64WV1288EEBLL.pdf
footprint ISSI-TSOP-2-32_N (SOP, 32-Leads, Body 21.1x10.3mm, Pitch 1.27mm, IPC Medium Density)
pins: 1 A0 (in) "Address Input", 2 A1 (in) "Address Input", 3 A2 (in) "Address Input", 4 A3 (in) "Address Input", 5 ~{CE} (in) "Chip Enable Input", 6 I/O0 (io) "Bidirectional Port", 7 I/O1 (io) "Bidirectional Port", 8 VDD (power) "Power", 9 GND (power) "Ground", 10 I/O2 (io) "Bidirectional Port", 11 I/O3 (io) "Bidirectional Port", 12 ~{WE} (in) "Write Enable Input", 13 A4 (in) "Address Input", 14 A5 (in) "Address Input", 15 A6 (in) "Address Input", 16 A7 (in) "Address Input", 17 A8 (in) "Address Input", 18 A9 (in) "Address Input", 19 A10 (in) "Address Input", 20 A11 (in) "Address Input", 21 A12 (in) "Address Input", 22 I/O4 (io) "Bidirectional Port", 23 I/O5 (io) "Bidirectional Port", 24 VDD (power) "Power", 25 GND (power) "Ground", 26 I/O6 (io) "Bidirectional Port", 27 I/O7 (io) "Bidirectional Port", 28 ~{OE} (in) "Output Enable Input", 29 A13 (in) "Address Input", 30 A14 (in) "Address Input", 31 A15 (in) "Address Input", 32 A16 (in) "Address Input"

## IS61WV2568EDBLL-8BLI
designator U?
2 M High Speed Asynchronous CMOS SRAM with ECC, 256 K x 8, -40 to 85 degC, 36-Pin BGA (TF-BGA-36), Pb-Free; Manufacturer: Integrated Silicon Solution Inc (ISSI); PartNumber: IS61WV2568EDBLL-8BLI; Density: 2M; Organization: 256K x 8; Packing: Tray / Tube; Speed (ns): 8; DatasheetVersion: Rev. A; PackageVersion: Rev. E, 08/2008; PackageReference: TF-BGA-36; PackageDescription: 36-Pin 6 x 8 mm TF-BGA, Pitch 0.75 mm; RoHS: Pb-Free; Mounting Technology: Surface Mount; Code_JEDEC: MO-207; ComponentLink1Description: Manufacturer URL; ComponentLink1URL: http://www.issi.com/US/index.shtml; ComponentLink2Description: Datasheet; ComponentLink2URL: http://www.issi.com/WW/pdf/61-64WV2568EDBLL.pdf; ComponentLink3Description: Package Specification; ComponentLink3URL: http://www.issi.com/WW/pdf/62-65WV2568DALL_BLL.pdf
footprint ISSI-TF-BGA-36-6000x8000DE (BGA, 36-Balls, Body 8x6mm, Pitch 0.75mm)
pins: A1 A0 (in) "Address Input", A2 A1 (in) "Address Input", A3 NC "No Connection", A4 A3 (in) "Address Input", A5 A6 (in) "Address Input", A6 A8 (in) "Address Input", B1 I/O4 (io) "Bidirectional Port", B2 A2 (in) "Address Input", B3 ~{WE} (in) "Write Enable Input", B4 A4 (in) "Address Input", B5 A7 (in) "Address Input", B6 I/O0 (io) "Bidirectional Port", C1 I/O5 (io) "Bidirectional Port", C3 NC "No Connection", C4 A5 (in) "Address Input", C6 I/O1 (io) "Bidirectional Port", D1 GND (power) "Ground", D6 VDD (power) "Power", E1 VDD (power) "Power", E6 GND (power) "Ground", F1 I/O6 (io) "Bidirectional Port", F3 NC "No Connection", F4 A17 (in) "Address Input", F6 I/O2 (io) "Bidirectional Port", G1 I/O7 (io) "Bidirectional Port", G2 ~{OE} (in) "Output Enable Input", G3 ~{CE} (in) "Chip Enable Input", G4 A16 (in) "Address Input", G5 A15 (in) "Address Input", G6 I/O3 (io) "Bidirectional Port", H1 A9 (in) "Address Input", H2 A10 (in) "Address Input", H3 A11 (in) "Address Input", H4 A12 (in) "Address Input", H5 A13 (in) "Address Input", H6 A14 (in) "Address Input"

## IS61WV2568EDBLL-8BLI-TR
designator U?
2 M High Speed Asynchronous CMOS SRAM with ECC, 256 K x 8, -40 to 85 degC, 36-Pin BGA (TF-BGA-36), Pb-Free; Manufacturer: Integrated Silicon Solution Inc (ISSI); PartNumber: IS61WV2568EDBLL-8BLI-TR; Density: 2M; Organization: 256K x 8; Packing: Tape & Reel; Speed (ns): 8; DatasheetVersion: Rev. A; PackageVersion: Rev. E, 08/2008; PackageReference: TF-BGA-36; PackageDescription: 36-Pin 6 x 8 mm TF-BGA, Pitch 0.75 mm; RoHS: Pb-Free; Mounting Technology: Surface Mount; Code_JEDEC: MO-207; ComponentLink1Description: Manufacturer URL; ComponentLink1URL: http://www.issi.com/US/index.shtml; ComponentLink2Description: Datasheet; ComponentLink2URL: http://www.issi.com/WW/pdf/61-64WV2568EDBLL.pdf; ComponentLink3Description: Package Specification; ComponentLink3URL: http://www.issi.com/WW/pdf/62-65WV2568DALL_BLL.pdf
footprint ISSI-TF-BGA-36-6000x8000DE (BGA, 36-Balls, Body 8x6mm, Pitch 0.75mm)
pins: A1 A0 (in) "Address Input", A2 A1 (in) "Address Input", A3 NC "No Connection", A4 A3 (in) "Address Input", A5 A6 (in) "Address Input", A6 A8 (in) "Address Input", B1 I/O4 (io) "Bidirectional Port", B2 A2 (in) "Address Input", B3 ~{WE} (in) "Write Enable Input", B4 A4 (in) "Address Input", B5 A7 (in) "Address Input", B6 I/O0 (io) "Bidirectional Port", C1 I/O5 (io) "Bidirectional Port", C3 NC "No Connection", C4 A5 (in) "Address Input", C6 I/O1 (io) "Bidirectional Port", D1 GND (power) "Ground", D6 VDD (power) "Power", E1 VDD (power) "Power", E6 GND (power) "Ground", F1 I/O6 (io) "Bidirectional Port", F3 NC "No Connection", F4 A17 (in) "Address Input", F6 I/O2 (io) "Bidirectional Port", G1 I/O7 (io) "Bidirectional Port", G2 ~{OE} (in) "Output Enable Input", G3 ~{CE} (in) "Chip Enable Input", G4 A16 (in) "Address Input", G5 A15 (in) "Address Input", G6 I/O3 (io) "Bidirectional Port", H1 A9 (in) "Address Input", H2 A10 (in) "Address Input", H3 A11 (in) "Address Input", H4 A12 (in) "Address Input", H5 A13 (in) "Address Input", H6 A14 (in) "Address Input"

## IS61WV2568EDBLL-8KLI
designator U?
2 M High Speed Asynchronous CMOS SRAM with ECC, 256 K x 8, -40 to 85 degC, 36-Pin SOJ (SOJ-36), Pb-Free; Manufacturer: Integrated Silicon Solution Inc (ISSI); PartNumber: IS61WV2568EDBLL-8KLI; Density: 2M; Organization: 256K x 8; Packing: Tray / Tube; Speed (ns): 8; DatasheetVersion: Rev. A; PackageVersion: Rev. F, 12/2007; PackageReference: SOJ-36; PackageDescription: 36-Pin 400 mil SOJ, Body 10.16 x 23.49 mm, Pitch 1.27 mm; RoHS: Pb-Free; Mounting Technology: Surface Mount; Code_JEDEC: MS-027; ComponentLink1Description: Manufacturer URL; ComponentLink1URL: http://www.issi.com/US/index.shtml; ComponentLink2Description: Datasheet; ComponentLink2URL: http://www.issi.com/WW/pdf/61-64WV2568EDBLL.pdf; ComponentLink3Description: Package Specification; ComponentLink3URL: http://www.issi.com/WW/pdf/61-64WV5128EDBLL.pdf
footprint ISSI-SOJ-36_N (SOJ, 36-Leads, Body 23.62x10.29mm, Pitch 1.27mm, IPC Medium Density)
pins: 1 A0 (in) "Address Input", 2 A1 (in) "Address Input", 3 A2 (in) "Address Input", 4 A3 (in) "Address Input", 5 A4 (in) "Address Input", 6 ~{CE} (in) "Chip Enable Input", 7 I/O0 (io) "Bidirectional Port", 8 I/O1 (io) "Bidirectional Port", 9 VDD (power) "Power", 10 GND (power) "Ground", 11 I/O2 (io) "Bidirectional Port", 12 I/O3 (io) "Bidirectional Port", 13 ~{WE} (in) "Write Enable Input", 14 A5 (in) "Address Input", 15 A6 (in) "Address Input", 16 A7 (in) "Address Input", 17 A8 (in) "Address Input", 18 A9 (in) "Address Input", 19 NC "No Connection", 20 NC "No Connection", 21 A10 (in) "Address Input", 22 A11 (in) "Address Input", 23 A12 (in) "Address Input", 24 A13 (in) "Address Input", 25 I/O4 (io) "Bidirectional Port", 26 I/O5 (io) "Bidirectional Port", 27 VDD (power) "Power", 28 GND (power) "Ground", 29 I/O6 (io) "Bidirectional Port", 30 I/O7 (io) "Bidirectional Port", 31 ~{OE} (in) "Output Enable Input", 32 A14 (in) "Address Input", 33 A15 (in) "Address Input", 34 A16 (in) "Address Input", 35 A17 (in) "Address Input", 36 NC "No Connection"

## IS61WV2568EDBLL-8KLI-TR
designator U?
2 M High Speed Asynchronous CMOS SRAM with ECC, 256 K x 8, -40 to 85 degC, 36-Pin SOJ (SOJ-36), Pb-Free; Manufacturer: Integrated Silicon Solution Inc (ISSI); PartNumber: IS61WV2568EDBLL-8KLI-TR; Density: 2M; Organization: 256K x 8; Packing: Tape & Reel; Speed (ns): 8; DatasheetVersion: Rev. A; PackageVersion: Rev. F, 12/2007; PackageReference: SOJ-36; PackageDescription: 36-Pin 400 mil SOJ, Body 10.16 x 23.49 mm, Pitch 1.27 mm; RoHS: Pb-Free; Mounting Technology: Surface Mount; Code_JEDEC: MS-027; ComponentLink1Description: Manufacturer URL; ComponentLink1URL: http://www.issi.com/US/index.shtml; ComponentLink2Description: Datasheet; ComponentLink2URL: http://www.issi.com/WW/pdf/61-64WV2568EDBLL.pdf; ComponentLink3Description: Package Specification; ComponentLink3URL: http://www.issi.com/WW/pdf/61-64WV5128EDBLL.pdf
footprint ISSI-SOJ-36_N (SOJ, 36-Leads, Body 23.62x10.29mm, Pitch 1.27mm, IPC Medium Density)
pins: 1 A0 (in) "Address Input", 2 A1 (in) "Address Input", 3 A2 (in) "Address Input", 4 A3 (in) "Address Input", 5 A4 (in) "Address Input", 6 ~{CE} (in) "Chip Enable Input", 7 I/O0 (io) "Bidirectional Port", 8 I/O1 (io) "Bidirectional Port", 9 VDD (power) "Power", 10 GND (power) "Ground", 11 I/O2 (io) "Bidirectional Port", 12 I/O3 (io) "Bidirectional Port", 13 ~{WE} (in) "Write Enable Input", 14 A5 (in) "Address Input", 15 A6 (in) "Address Input", 16 A7 (in) "Address Input", 17 A8 (in) "Address Input", 18 A9 (in) "Address Input", 19 NC "No Connection", 20 NC "No Connection", 21 A10 (in) "Address Input", 22 A11 (in) "Address Input", 23 A12 (in) "Address Input", 24 A13 (in) "Address Input", 25 I/O4 (io) "Bidirectional Port", 26 I/O5 (io) "Bidirectional Port", 27 VDD (power) "Power", 28 GND (power) "Ground", 29 I/O6 (io) "Bidirectional Port", 30 I/O7 (io) "Bidirectional Port", 31 ~{OE} (in) "Output Enable Input", 32 A14 (in) "Address Input", 33 A15 (in) "Address Input", 34 A16 (in) "Address Input", 35 A17 (in) "Address Input", 36 NC "No Connection"

## IS61WV2568EDBLL-8TLI
designator U?
2 M High Speed Asynchronous CMOS SRAM with ECC, 256 K x 8, -40 to 85 degC, 44-Pin SOP (TSOP-2-44), Pb-Free; Manufacturer: Integrated Silicon Solution Inc (ISSI); PartNumber: IS61WV2568EDBLL-8TLI; Density: 2M; Organization: 256K x 8; Packing: Tray / Tube; Speed (ns): 8; DatasheetVersion: Rev. A; PackageVersion: Rev. F, 06/2008; PackageReference: TSOP-2-44; PackageDescription: 44-Pin 400 mil TSOP-2, Body 18.41 x 10.16 mm, Pitch 0.8 mm; RoHS: Pb-Free; Mounting Technology: Surface Mount; ComponentLink1Description: Manufacturer URL; ComponentLink1URL: http://www.issi.com/US/index.shtml; ComponentLink2Description: Datasheet; ComponentLink2URL: http://www.issi.com/WW/pdf/61-64WV2568EDBLL.pdf; ComponentLink3Description: Package Specification; ComponentLink3URL: http://www.issi.com/WW/pdf/61-64WV6416EEBLL.pdf
footprint ISSI-TSOP-2-44_N (SOP, 44-Leads, Body 18.5x10.3mm, Pitch 0.8mm, IPC Medium Density)
part A pins: 3 A0 (in) "Address Input", 4 A1 (in) "Address Input", 5 A2 (in) "Address Input", 6 A3 (in) "Address Input", 7 A4 (in) "Address Input", 8 ~{CE} (in) "Chip Enable Input", 9 I/O0 (io) "Bidirectional Port", 10 I/O1 (io) "Bidirectional Port", 11 VDD (power) "Power", 12 GND (power) "Ground", 13 I/O2 (io) "Bidirectional Port", 14 I/O3 (io) "Bidirectional Port", 15 ~{WE} (in) "Write Enable Input", 16 A5 (in) "Address Input", 17 A6 (in) "Address Input", 18 A7 (in) "Address Input", 19 A8 (in) "Address Input", 20 A9 (in) "Address Input", 27 A10 (in) "Address Input", 28 A11 (in) "Address Input", 29 A12 (in) "Address Input", 30 A13 (in) "Address Input", 31 I/O4 (io) "Bidirectional Port", 32 I/O5 (io) "Bidirectional Port", 33 VDD (power) "Power", 34 GND (power) "Ground", 35 I/O6 (io) "Bidirectional Port", 36 I/O7 (io) "Bidirectional Port", 37 ~{OE} (in) "Output Enable Input", 38 A14 (in) "Address Input", 39 A15 (in) "Address Input", 40 A16 (in) "Address Input", 41 A17 (in) "Address Input"
part B pins: 1 NC "No Connection", 2 NC "No Connection", 21 NC "No Connection", 22 NC "No Connection", 23 NC "No Connection", 24 NC "No Connection", 25 NC "No Connection", 26 NC "No Connection", 42 NC "No Connection", 43 NC "No Connection", 44 NC "No Connection"

## IS61WV2568EDBLL-8TLI-TR
designator U?
2 M High Speed Asynchronous CMOS SRAM with ECC, 256 K x 8, -40 to 85 degC, 44-Pin SOP (TSOP-2-44), Pb-Free; Manufacturer: Integrated Silicon Solution Inc (ISSI); PartNumber: IS61WV2568EDBLL-8TLI-TR; Density: 2M; Organization: 256K x 8; Packing: Tape & Reel; Speed (ns): 8; DatasheetVersion: Rev. A; PackageVersion: Rev. F, 06/2008; PackageReference: TSOP-2-44; PackageDescription: 44-Pin 400 mil TSOP-2, Body 18.41 x 10.16 mm, Pitch 0.8 mm; RoHS: Pb-Free; Mounting Technology: Surface Mount; ComponentLink1Description: Manufacturer URL; ComponentLink1URL: http://www.issi.com/US/index.shtml; ComponentLink2Description: Datasheet; ComponentLink2URL: http://www.issi.com/WW/pdf/61-64WV2568EDBLL.pdf; ComponentLink3Description: Package Specification; ComponentLink3URL: http://www.issi.com/WW/pdf/61-64WV6416EEBLL.pdf
footprint ISSI-TSOP-2-44_N (SOP, 44-Leads, Body 18.5x10.3mm, Pitch 0.8mm, IPC Medium Density)
part A pins: 3 A0 (in) "Address Input", 4 A1 (in) "Address Input", 5 A2 (in) "Address Input", 6 A3 (in) "Address Input", 7 A4 (in) "Address Input", 8 ~{CE} (in) "Chip Enable Input", 9 I/O0 (io) "Bidirectional Port", 10 I/O1 (io) "Bidirectional Port", 11 VDD (power) "Power", 12 GND (power) "Ground", 13 I/O2 (io) "Bidirectional Port", 14 I/O3 (io) "Bidirectional Port", 15 ~{WE} (in) "Write Enable Input", 16 A5 (in) "Address Input", 17 A6 (in) "Address Input", 18 A7 (in) "Address Input", 19 A8 (in) "Address Input", 20 A9 (in) "Address Input", 27 A10 (in) "Address Input", 28 A11 (in) "Address Input", 29 A12 (in) "Address Input", 30 A13 (in) "Address Input", 31 I/O4 (io) "Bidirectional Port", 32 I/O5 (io) "Bidirectional Port", 33 VDD (power) "Power", 34 GND (power) "Ground", 35 I/O6 (io) "Bidirectional Port", 36 I/O7 (io) "Bidirectional Port", 37 ~{OE} (in) "Output Enable Input", 38 A14 (in) "Address Input", 39 A15 (in) "Address Input", 40 A16 (in) "Address Input", 41 A17 (in) "Address Input"
part B pins: 1 NC "No Connection", 2 NC "No Connection", 21 NC "No Connection", 22 NC "No Connection", 23 NC "No Connection", 24 NC "No Connection", 25 NC "No Connection", 26 NC "No Connection", 42 NC "No Connection", 43 NC "No Connection", 44 NC "No Connection"

## IS61WV2568EDBLL-10BI
designator U?
2 M High Speed Asynchronous CMOS SRAM with ECC, 256 K x 8, -40 to 85 degC, 36-Pin BGA (TF-BGA-36); Manufacturer: Integrated Silicon Solution Inc (ISSI); PartNumber: IS61WV2568EDBLL-10BI; Density: 2M; Organization: 256K x 8; Packing: Tray / Tube; Speed (ns): 10; DatasheetVersion: Rev. A; PackageVersion: Rev. E, 08/2008; PackageReference: TF-BGA-36; PackageDescription: 36-Pin 6 x 8 mm TF-BGA, Pitch 0.75 mm; Mounting Technology: Surface Mount; Code_JEDEC: MO-207; ComponentLink1Description: Manufacturer URL; ComponentLink1URL: http://www.issi.com/US/index.shtml; ComponentLink2Description: Datasheet; ComponentLink2URL: http://www.issi.com/WW/pdf/61-64WV2568EDBLL.pdf; ComponentLink3Description: Package Specification; ComponentLink3URL: http://www.issi.com/WW/pdf/62-65WV2568DALL_BLL.pdf
footprint ISSI-TF-BGA-36-6000x8000DE (BGA, 36-Balls, Body 8x6mm, Pitch 0.75mm)
pins: A1 A0 (in) "Address Input", A2 A1 (in) "Address Input", A3 NC "No Connection", A4 A3 (in) "Address Input", A5 A6 (in) "Address Input", A6 A8 (in) "Address Input", B1 I/O4 (io) "Bidirectional Port", B2 A2 (in) "Address Input", B3 ~{WE} (in) "Write Enable Input", B4 A4 (in) "Address Input", B5 A7 (in) "Address Input", B6 I/O0 (io) "Bidirectional Port", C1 I/O5 (io) "Bidirectional Port", C3 NC "No Connection", C4 A5 (in) "Address Input", C6 I/O1 (io) "Bidirectional Port", D1 GND (power) "Ground", D6 VDD (power) "Power", E1 VDD (power) "Power", E6 GND (power) "Ground", F1 I/O6 (io) "Bidirectional Port", F3 NC "No Connection", F4 A17 (in) "Address Input", F6 I/O2 (io) "Bidirectional Port", G1 I/O7 (io) "Bidirectional Port", G2 ~{OE} (in) "Output Enable Input", G3 ~{CE} (in) "Chip Enable Input", G4 A16 (in) "Address Input", G5 A15 (in) "Address Input", G6 I/O3 (io) "Bidirectional Port", H1 A9 (in) "Address Input", H2 A10 (in) "Address Input", H3 A11 (in) "Address Input", H4 A12 (in) "Address Input", H5 A13 (in) "Address Input", H6 A14 (in) "Address Input"

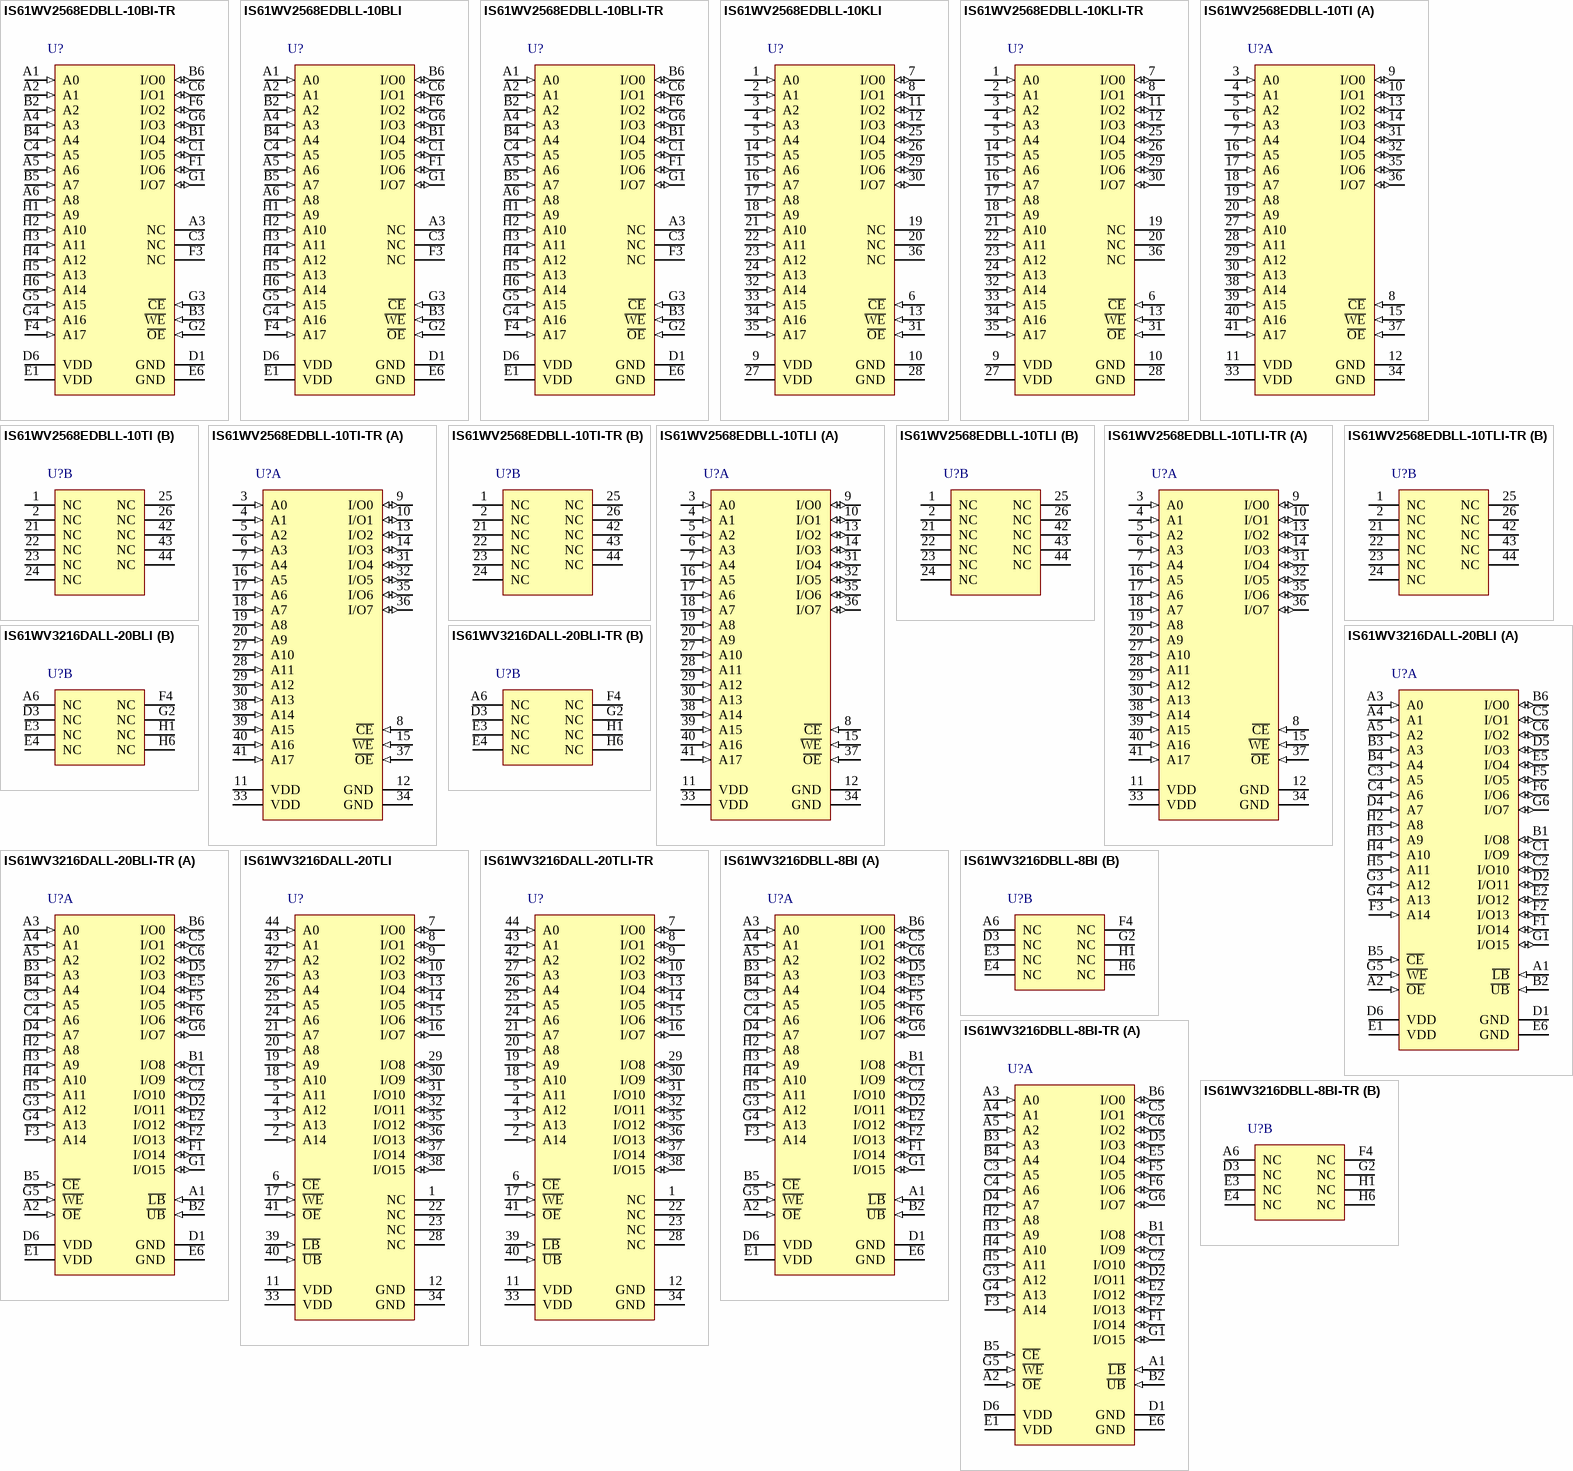
[diagram p6: symbols IS61WV2568EDBLL-10BI-TR to IS61WV3216DBLL-8BI-TR]

## IS61WV2568EDBLL-10BI-TR
designator U?
2 M High Speed Asynchronous CMOS SRAM with ECC, 256 K x 8, -40 to 85 degC, 36-Pin BGA (TF-BGA-36); Manufacturer: Integrated Silicon Solution Inc (ISSI); PartNumber: IS61WV2568EDBLL-10BI-TR; Density: 2M; Organization: 256K x 8; Packing: Tape & Reel; Speed (ns): 10; DatasheetVersion: Rev. A; PackageVersion: Rev. E, 08/2008; PackageReference: TF-BGA-36; PackageDescription: 36-Pin 6 x 8 mm TF-BGA, Pitch 0.75 mm; Mounting Technology: Surface Mount; Code_JEDEC: MO-207; ComponentLink1Description: Manufacturer URL; ComponentLink1URL: http://www.issi.com/US/index.shtml; ComponentLink2Description: Datasheet; ComponentLink2URL: http://www.issi.com/WW/pdf/61-64WV2568EDBLL.pdf; ComponentLink3Description: Package Specification; ComponentLink3URL: http://www.issi.com/WW/pdf/62-65WV2568DALL_BLL.pdf
footprint ISSI-TF-BGA-36-6000x8000DE (BGA, 36-Balls, Body 8x6mm, Pitch 0.75mm)
pins: A1 A0 (in) "Address Input", A2 A1 (in) "Address Input", A3 NC "No Connection", A4 A3 (in) "Address Input", A5 A6 (in) "Address Input", A6 A8 (in) "Address Input", B1 I/O4 (io) "Bidirectional Port", B2 A2 (in) "Address Input", B3 ~{WE} (in) "Write Enable Input", B4 A4 (in) "Address Input", B5 A7 (in) "Address Input", B6 I/O0 (io) "Bidirectional Port", C1 I/O5 (io) "Bidirectional Port", C3 NC "No Connection", C4 A5 (in) "Address Input", C6 I/O1 (io) "Bidirectional Port", D1 GND (power) "Ground", D6 VDD (power) "Power", E1 VDD (power) "Power", E6 GND (power) "Ground", F1 I/O6 (io) "Bidirectional Port", F3 NC "No Connection", F4 A17 (in) "Address Input", F6 I/O2 (io) "Bidirectional Port", G1 I/O7 (io) "Bidirectional Port", G2 ~{OE} (in) "Output Enable Input", G3 ~{CE} (in) "Chip Enable Input", G4 A16 (in) "Address Input", G5 A15 (in) "Address Input", G6 I/O3 (io) "Bidirectional Port", H1 A9 (in) "Address Input", H2 A10 (in) "Address Input", H3 A11 (in) "Address Input", H4 A12 (in) "Address Input", H5 A13 (in) "Address Input", H6 A14 (in) "Address Input"

## IS61WV2568EDBLL-10BLI
designator U?
2 M High Speed Asynchronous CMOS SRAM with ECC, 256 K x 8, -40 to 85 degC, 36-Pin BGA (TF-BGA-36), Pb-Free; Manufacturer: Integrated Silicon Solution Inc (ISSI); PartNumber: IS61WV2568EDBLL-10BLI; Density: 2M; Organization: 256K x 8; Packing: Tray / Tube; Speed (ns): 10; DatasheetVersion: Rev. A; PackageVersion: Rev. E, 08/2008; PackageReference: TF-BGA-36; PackageDescription: 36-Pin 6 x 8 mm TF-BGA, Pitch 0.75 mm; RoHS: Pb-Free; Mounting Technology: Surface Mount; Code_JEDEC: MO-207; ComponentLink1Description: Manufacturer URL; ComponentLink1URL: http://www.issi.com/US/index.shtml; ComponentLink2Description: Datasheet; ComponentLink2URL: http://www.issi.com/WW/pdf/61-64WV2568EDBLL.pdf; ComponentLink3Description: Package Specification; ComponentLink3URL: http://www.issi.com/WW/pdf/62-65WV2568DALL_BLL.pdf
footprint ISSI-TF-BGA-36-6000x8000DE (BGA, 36-Balls, Body 8x6mm, Pitch 0.75mm)
pins: A1 A0 (in) "Address Input", A2 A1 (in) "Address Input", A3 NC "No Connection", A4 A3 (in) "Address Input", A5 A6 (in) "Address Input", A6 A8 (in) "Address Input", B1 I/O4 (io) "Bidirectional Port", B2 A2 (in) "Address Input", B3 ~{WE} (in) "Write Enable Input", B4 A4 (in) "Address Input", B5 A7 (in) "Address Input", B6 I/O0 (io) "Bidirectional Port", C1 I/O5 (io) "Bidirectional Port", C3 NC "No Connection", C4 A5 (in) "Address Input", C6 I/O1 (io) "Bidirectional Port", D1 GND (power) "Ground", D6 VDD (power) "Power", E1 VDD (power) "Power", E6 GND (power) "Ground", F1 I/O6 (io) "Bidirectional Port", F3 NC "No Connection", F4 A17 (in) "Address Input", F6 I/O2 (io) "Bidirectional Port", G1 I/O7 (io) "Bidirectional Port", G2 ~{OE} (in) "Output Enable Input", G3 ~{CE} (in) "Chip Enable Input", G4 A16 (in) "Address Input", G5 A15 (in) "Address Input", G6 I/O3 (io) "Bidirectional Port", H1 A9 (in) "Address Input", H2 A10 (in) "Address Input", H3 A11 (in) "Address Input", H4 A12 (in) "Address Input", H5 A13 (in) "Address Input", H6 A14 (in) "Address Input"